# Altium footprint library XCVR_NRF24L01P-MODULE-PCB.PcbLib: 1 footprints
Each footprint in its own frame and in the unit in brackets; x right, y up, seen from the top. Pads: shape width x height; smd on the part's side, far side on the other; paste and mask are expansions set on the pad; w line width, h text height; cw(c..) or ccw(c..) is an arc to the next point about the centre after c.
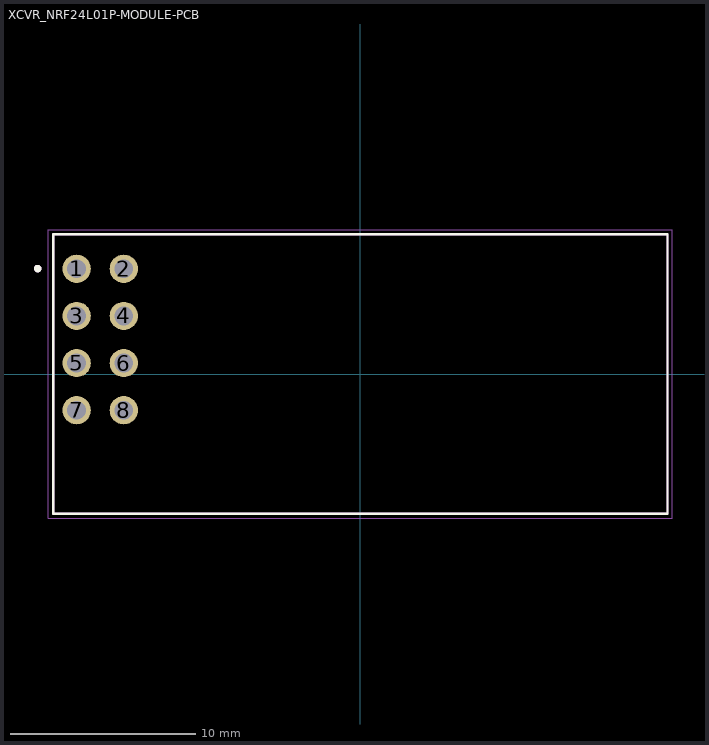
[diagram p0: the footprint, top view; thin cyan lines are the x and y axes]

## XCVR_NRF24L01P-MODULE-PCB [mil]
pads (8):
  round 60 hole 40: 1(-601.75,223.19) 2(-501.75,223.19) 3(-601.75,123.19) 4(-501.75,123.19) 5(-601.75,23.18) 6(-501.75,23.18) 7(-601.75,-76.81) 8(-501.75,-76.81)
Top Overlay:
  circle w7.87: c-684.45,223.62 r3.94
  lines w5: -651.75,-296.5 -651.75,296.5 651.75,296.5 651.75,-296.5 -651.75,-296.5
Mechanical 13:
  circle w7.87: c-684.45,223.62 r3.94
  lines w5: -651.75,-296.5 -651.75,296.5 651.75,296.5 651.75,-296.5 -651.75,-296.5
Mechanical 15:
  lines w1.97: -661.59,-306.34 -661.59,306.34 661.59,306.34 661.59,-306.34 -661.59,-306.34